# Altium schematic symbol library TSC2046_SSOP.SchLib: 1 symbol
Pins are listed as number, name and electrical type; pins without a type are passive.

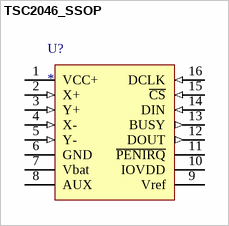
[diagram p0: symbol TSC2046_SSOP]

## TSC2046_SSOP
designator U?
pins: 1 VCC+ (power), 2 X+ (in), 3 Y+ (in), 4 X- (in), 5 Y- (in), 6 GND (power), 7 Vbat (power), 8 AUX (power), 9 Vref (power), 10 IOVDD (power), 11 ~{PENIRQ}, 12 DOUT (out), 13 BUSY (out), 14 DIN (in), 15 ~{CS} (in), 16 DCLK (in)